# EAGLE library part TFS757-764HG (library power_integrations)
The HiperTFS device family members incorporate both a high-power two-switch-forward converter and a mid-power flyback (standby) converter into a single, low-profile eSIP™ power package. The single chip solution provides the controllers for the two-switch-forward and flyback converters, high- and low-side drivers, all three of the high-voltage power MOSFETs, and eliminates the converter’s need for costly external pulse transformers. The device is ideal for high power applications that require both a main power converter (two-switch forward) up to 414 W, and standby converter (flyback) up to 20 W. HiperTFS includes Power Integrations’ standard set of comprehensive protection features, such as integrated soft-start, fault and over-load protection, and hysteretic thermal shutdown. HiperTFS utilizes advanced power packaging technology that simplifies the complexity of two-switch forward layout, mounting and thermal management, while providing very high power capabilities in a single compact package. The devices operate over a wide input voltage range, and can be used following a power-factor correction stage such as HiperPFS.
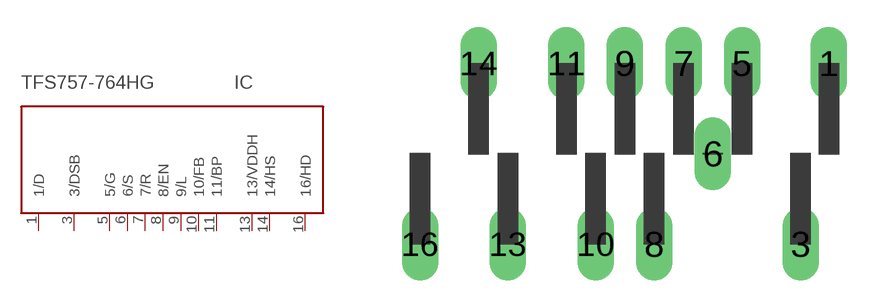
[diagram p11: symbol with the pads of SIP-E-16B(H_PACKAGE); footprint SIP-E-16B(H_PACKAGE)]

Designator prefix IC

## TFS757-764HG  [SIP-E-16B(H_PACKAGE)]
1  1/D
3  3/DSB
5  5/G  pwr
6  6/S
7  7/R
8  8/EN
9  9/L
10  10/FB
11  11/BP
13  13/VDDH  pwr
14  14/HS
16  16/HD

## Footprint SIP-E-16B(H_PACKAGE) (pad centres in mm)
drill 0.7 long: 1 7.73,3; 3 6.79,-3; 5 4.85,3; 6 3.88,0; 7 2.91,3; 8 1.94,-3; 9 0.97,3; 10 0,-3; 11 -0.97,3; 13 -2.91,-3; 14 -3.88,3; 16 -5.82,-3